# Altium schematic symbol library RCLD.SchLib: 19 symbols
Pins are listed as number, name and electrical type; pins without a type are passive.

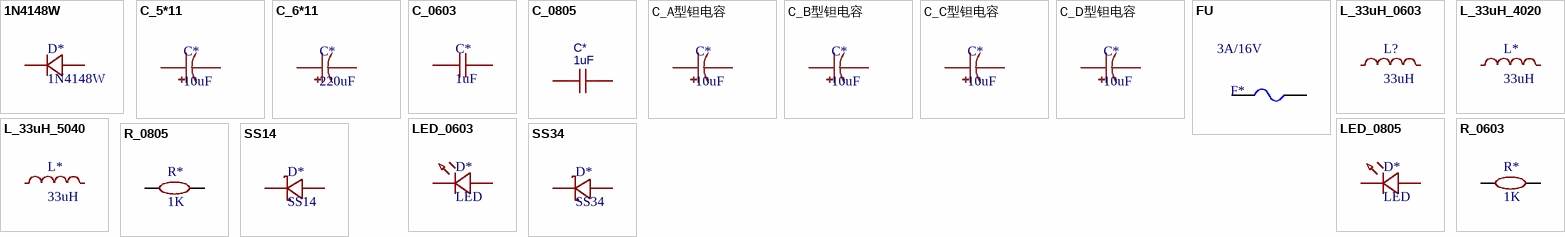
[diagram p0: symbols 1N4148W to SS34]

## 1N4148W
designator D*
150mA/100V    开关二极管
footprint SOD-123 (2.7x1.6X1.1mm（长宽高，不包括引脚）)
pins: 1 A, 2 K

## C_5*11
designator C*, comment 10uF
25V/50V/10uf    16V/100uf
footprint CAP 2.0*5*11 (脚距2mm直径5mm高度11mm                 淘宝ID:黄晶宝石)
pins: 1, 2

## C_6*11
designator C*, comment 220uF
25V/220uf
footprint CAP 2.5*6.3*11.2 (脚距2.5mm直径6.3mm高度11.2mm)
pins: 1, 2

## C_0603
designator C*, comment 1uF
4.7nf-4.7uf
footprint C_0603
pins: 1, 2

## C_0805
designator C*, comment 1uF
4.7nf-4.7uf; BOM_Manufacturer Part: CL21A106KAYNNNE; BOM_Manufacturer: SAMSUNG; nameAlias: Capacitance; BOM_Supplier: LCSC; BOM_Supplier Part: C15850; BOM_JLCPCB Part Class: Basic Part; spicePre: C; spiceSymbolName: CL21A106KAYNNNE
footprint C_0805 (Footprint not found)
pins: 1, 2

## C_A型钽电容
designator C*, comment 10uF
16V/10uf
footprint CD A(3216) (长3.2mm，宽1.6mm，厚1.6mm      淘宝ID:黄晶宝石)
pins: 1, 2

## C_B型钽电容
designator C*, comment 10uF
35V/1uf-25V/10uf-6.3V/220uf
footprint CD B(3528) (长3.5mm，宽2.8mm，厚1.9mm)
pins: 1, 2

## C_C型钽电容
designator C*, comment 10uF
footprint CD C(6032) (长6.0mm，宽3.2mm，厚2.5mm)
pins: 1, 2

## C_D型钽电容
designator C*, comment 10uF
pins: 1, 2

## FU
designator F*, comment 3A/16V
BOM名称: 贴片保险丝; 版权归属: 封装库来自淘宝卖家 ID：黄晶宝石; 学习资源: https://shop463601444.taobao.com
footprint FU 1812 (贴片保险丝-1812)
pins: 1, 2

## L_33uH_0603
designator L?, comment 33uH
一体成型电感
footprint L-SMD-0630 (一体化成型电感)
pins: 1, 2

## L_33uH_4020
designator L*, comment 33uH
1.5uH-33uH
footprint L_SWPA4020
pins: 1, 2

## L_33uH_5040
designator L*, comment 33uH
1.5uH-33uH
footprint L_SWPA5040 (轮廓5mm*5mm ，焊盘间距2.3mm)
pins: 1, 2

## LED_0603
designator D*, comment LED
footprint LED_0603
pins: 1 A, 2 K

## LED_0805
designator D*, comment LED
footprint LED_0805
pins: 1 A, 2 K

## R_0603
designator R*, comment 1K
footprint R_0603
pins: 1, 2

## R_0805
designator R*, comment 1K
footprint R_0805
pins: 1, 2

## SS14
designator D*
1A/40V
footprint D_1N5819
pins: 1, 2

## SS34
designator D*
3A/40
footprint D_1N5819
pins: 1, 2